# Altium footprint library Robsense_lxxu.PcbLib: 67 footprints (part 5 of 5)
Each footprint in its own frame and in the unit in brackets; x right, y up, seen from the top. Pads: shape width x height; smd on the part's side, far side on the other; paste and mask are expansions set on the pad; w line width, h text height; cw(c..) or ccw(c..) is an arc to the next point about the centre after c.
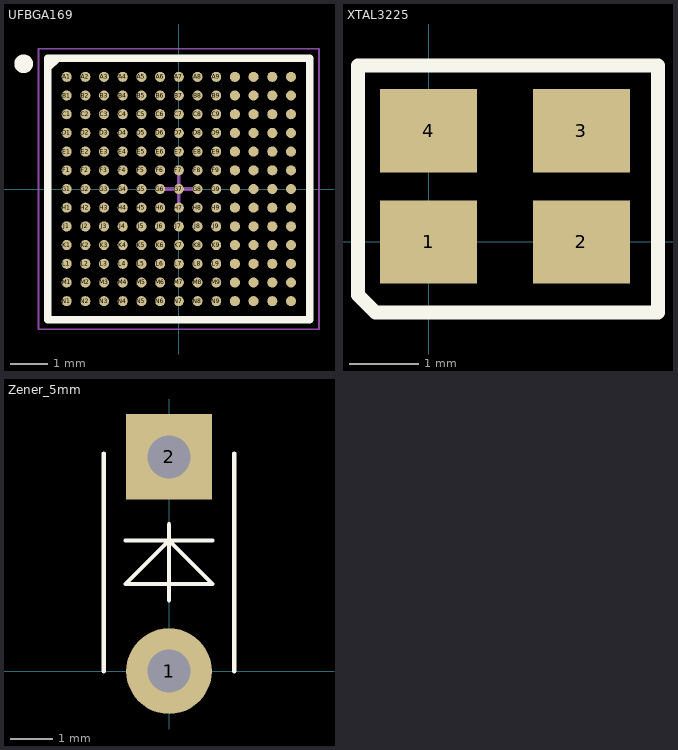
[diagram p4: the footprints below, top view; thin cyan lines are the x and y axes]

## UFBGA169 [mm] "BGA, 169-Leads, Body 7.00x7.00mmx0.53mm, Pitch 0.50mm"
height 0.53
pads (169):
  round 0.27 smd: A1(-3,3) A2(-2.5,3) A3(-2,3) A4(-1.5,3) A5(-1,3) A6(-0.5,3) A7(0,3) A8(0.5,3) A9(1,3) A10(1.5,3) A11(2,3) A12(2.5,3) A13(3,3) B1(-3,2.5) B2(-2.5,2.5) B3(-2,2.5) B4(-1.5,2.5) B5(-1,2.5) B6(-0.5,2.5) B7(0,2.5) B8(0.5,2.5) B9(1,2.5) B10(1.5,2.5) B11(2,2.5) B12(2.5,2.5) B13(3,2.5) C1(-3,2) C2(-2.5,2) C3(-2,2) C4(-1.5,2) C5(-1,2) C6(-0.5,2) C7(0,2) C8(0.5,2) C9(1,2) C10(1.5,2) C11(2,2) C12(2.5,2) C13(3,2) D1(-3,1.5) D2(-2.5,1.5) D3(-2,1.5) D4(-1.5,1.5) D5(-1,1.5) D6(-0.5,1.5) D7(0,1.5) D8(0.5,1.5) D9(1,1.5) D10(1.5,1.5) D11(2,1.5) D12(2.5,1.5) D13(3,1.5) E1(-3,1) E2(-2.5,1) E3(-2,1) E4(-1.5,1) E5(-1,1) E6(-0.5,1) E7(0,1) E8(0.5,1) E9(1,1) E10(1.5,1) E11(2,1) E12(2.5,1) E13(3,1) F1(-3,0.5) F2(-2.5,0.5) F3(-2,0.5) F4(-1.5,0.5) F5(-1,0.5) F6(-0.5,0.5) F7(0,0.5) F8(0.5,0.5) F9(1,0.5) F10(1.5,0.5) F11(2,0.5) F12(2.5,0.5) F13(3,0.5) G1(-3,0) G2(-2.5,0) G3(-2,0) G4(-1.5,0) G5(-1,0) G6(-0.5,0) G7(0,0) G8(0.5,0) G9(1,0) G10(1.5,0) G11(2,0) G12(2.5,0) G13(3,0) H1(-3,-0.5) H2(-2.5,-0.5) H3(-2,-0.5) H4(-1.5,-0.5) H5(-1,-0.5) H6(-0.5,-0.5) H7(0,-0.5) H8(0.5,-0.5) H9(1,-0.5) H10(1.5,-0.5) H11(2,-0.5) H12(2.5,-0.5) H13(3,-0.5) J1(-3,-1) J2(-2.5,-1) J3(-2,-1) J4(-1.5,-1) J5(-1,-1) J6(-0.5,-1) J7(0,-1) J8(0.5,-1) J9(1,-1) J10(1.5,-1) J11(2,-1) J12(2.5,-1) J13(3,-1) K1(-3,-1.5) K2(-2.5,-1.5) K3(-2,-1.5) K4(-1.5,-1.5) K5(-1,-1.5) K6(-0.5,-1.5) K7(0,-1.5) K8(0.5,-1.5) K9(1,-1.5) K10(1.5,-1.5) K11(2,-1.5) K12(2.5,-1.5) K13(3,-1.5) L1(-3,-2) L2(-2.5,-2) L3(-2,-2) L4(-1.5,-2) L5(-1,-2) L6(-0.5,-2) L7(0,-2) L8(0.5,-2) L9(1,-2) L10(1.5,-2) L11(2,-2) L12(2.5,-2) L13(3,-2) M1(-3,-2.5) M2(-2.5,-2.5) M3(-2,-2.5) M4(-1.5,-2.5) M5(-1,-2.5) M6(-0.5,-2.5) M7(0,-2.5) M8(0.5,-2.5) M9(1,-2.5) M10(1.5,-2.5) M11(2,-2.5) M12(2.5,-2.5) M13(3,-2.5) N1(-3,-3) N2(-2.5,-3) N3(-2,-3) N4(-1.5,-3) N5(-1,-3) N6(-0.5,-3) N7(0,-3) N8(0.5,-3) N9(1,-3) N10(1.5,-3) N11(2,-3) N12(2.5,-3) N13(3,-3)
Top Overlay:
  circle w0.25: c-4.15,3.35 r0.125
  region: -3.242,3.5 -3.5,3.242 -3.5,3.5
  lines w0.2: -3.5,3.242 -3.242,3.5 ; -3.5,-3.5 3.5,-3.5 3.5,3.5 -3.5,3.5 -3.5,-3.5
Mechanical 13:
  lines w0.1: -3.5,-3.5 3.5,-3.5 3.5,3.5 -3.5,3.5 -3.5,-3.5
Mechanical 15:
  lines w0.05: -3.75,-3.75 3.75,-3.75 3.75,3.75 -3.75,3.75 -3.75,-3.75
  lines w0.1: -0.5,0 0.5,0 ; 0,-0.5 0,0.5
3D body: height 0.53, standoff 0.08, extent -3.5,-3.5 3.5,3.5

## XTAL3225 [mm]
pads (4):
  rect 1.4x1.2 smd: 1(0,0) 2(2.2,0) 3(2.2,1.6) 4(0,1.6)
Top Overlay:
  lines w0.2: -1.016,-0.762 -1.016,2.54 3.302,2.54 3.302,-1.016 -0.762,-1.016 -1.016,-0.762

## Zener_5mm [mm]
pads (2):
  round 2 hole 1: 1(0,0)
  rect 2x2 hole 1: 2(0,5)
Top Overlay:
  lines w0.1: -1.524,0 -1.524,5.08 ; -1.016,3.048 1.016,3.048 ; 0,1.651 0,3.429 ; 1.524,0 1.524,5.08 ; -1.016,2.032 0,3.048 1.016,2.032 -1.016,2.032